# EAGLE library part S6B-XH (library con-JST)
JST XH series header 2.50mm pitch disconnectable crimp style connectors, horizontal (side entry type), 6 pins
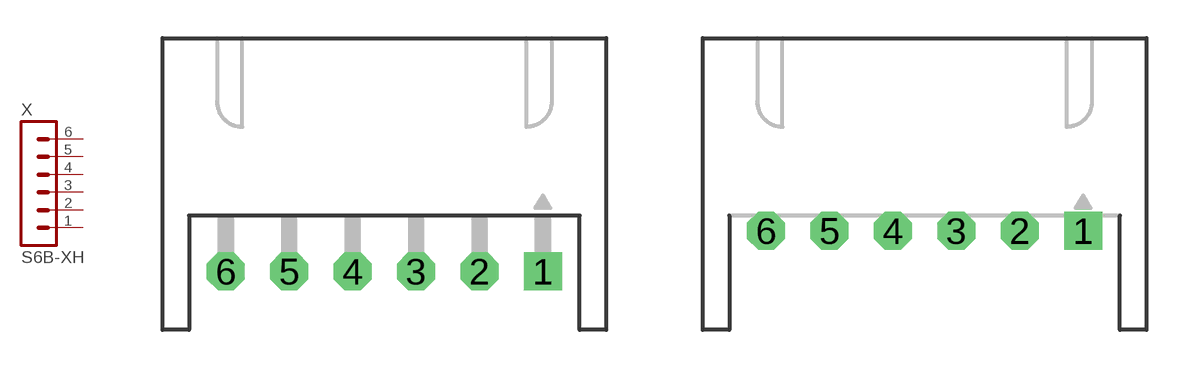
[diagram p12: symbol with the pads of S6B-XH-A; footprints S6B-XH-A, S6B-XH-A-1]

Designator prefix X

## S6B-XH-A  [S6B-XH-A]
1  1  pas
2  2  pas
3  3  pas
4  4  pas
5  5  pas
6  6  pas

## S6B-XH-A-1  [S6B-XH-A-1]
Pads as for S6B-XH-A

## Footprint S6B-XH-A (pad centres in mm)
JST XH series header 2.50mm pitch disconnectable crimp style connectors, horizontal (side entry type), 6 pins
drill 0.9 pad 1.5 square: 1 6.25,0
drill 0.9 pad 1.5 octagon: 2 3.75,0; 3 1.25,0; 4 -1.25,0; 5 -3.75,0; 6 -6.25,0

## Footprint S6B-XH-A-1 (pad centres in mm)
JST XH series header 2.50mm pitch disconnectable crimp style connectors, horizontal (side entry type), 6 pins
drill 0.9 pad 1.5 square: 1 6.25,0
drill 0.9 pad 1.5 octagon: 2 3.75,0; 3 1.25,0; 4 -1.25,0; 5 -3.75,0; 6 -6.25,0